# Altium footprint library FH19C8S05SH10.PcbLib: 1 footprints
Each footprint in its own frame and in the unit in brackets; x right, y up, seen from the top. Pads: shape width x height; smd on the part's side, far side on the other; paste and mask are expansions set on the pad; w line width, h text height; cw(c..) or ccw(c..) is an arc to the next point about the centre after c.
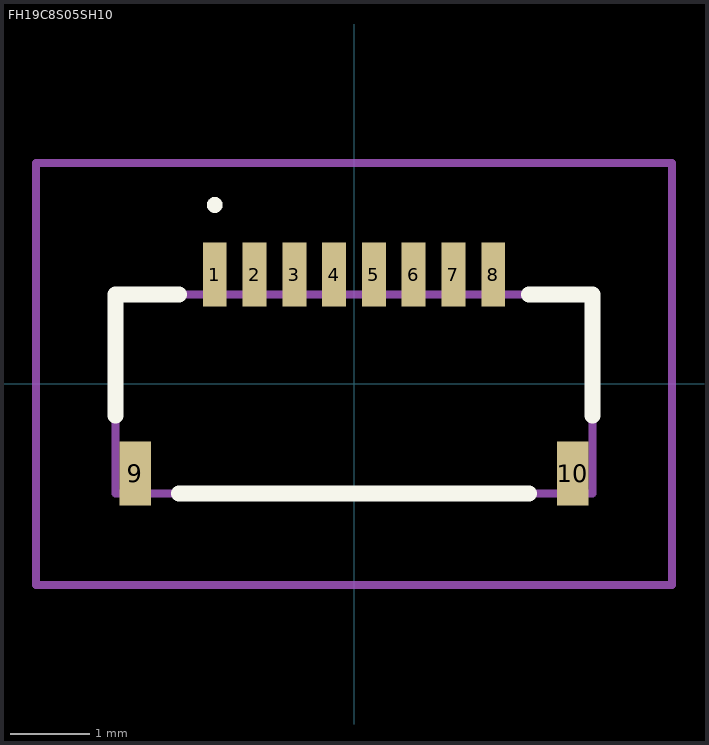
[diagram p0: the footprint, top view; thin cyan lines are the x and y axes]

## FH19C8S05SH10 [mm]
pads (10):
  rect 0.3x0.8 smd: 1(-1.75,1.375) 2(-1.25,1.375) 3(-0.75,1.375) 4(-0.25,1.375) 5(0.25,1.375) 6(0.75,1.375) 7(1.25,1.375) 8(1.75,1.375)
  rect 0.4x0.8 smd: 9(-2.75,-1.125) 10(2.75,-1.125)
Top Overlay:
  lines w0.1: -1.75,2.2 -1.75,2.2 ; -1.75,2.2 ccw(c-1.75,2.25) -1.75,2.3 ; -1.75,2.2 cw(c-1.75,2.25) -1.75,2.3 ; -1.75,2.3 -1.75,2.3
  lines w0.2: -3,-0.4 -3,1.125 -2.2,1.125 ; -2.2,-1.375 2.2,-1.375 ; 2.2,1.125 3,1.125 3,-0.4
Mechanical 15:
  lines w0.1: -3,-1.375 3,-1.375 3,1.125 -3,1.125 -3,-1.375
Mechanical 20:
  lines w0.1: -4,-2.525 4,-2.525 4,2.775 -4,2.775 -4,-2.525